# EAGLE library part Y__LCD-RADIO-LPH5019-1 (library ++Bedrahtet)
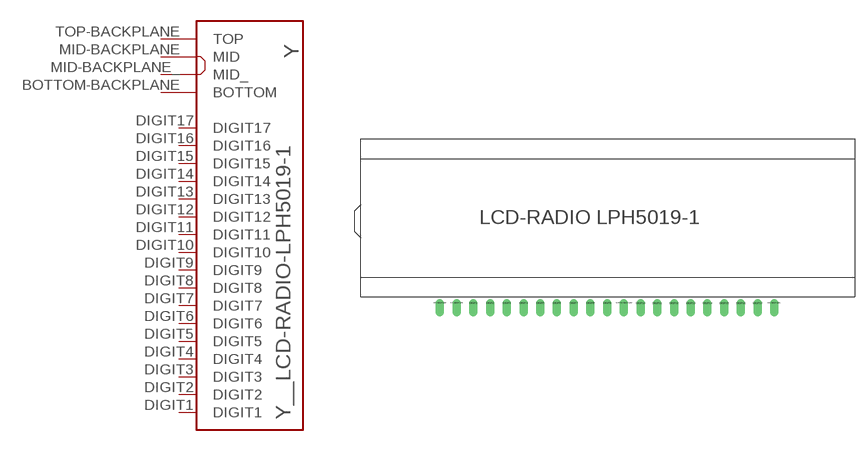
[diagram p45: symbol with the pads of LCD-RADIO; footprint LCD-RADIO]

Designator prefix Y

## Y__LCD-RADIO-LPH5019-1  [LCD-RADIO]
BOTTOM-BACKPLANE  BOTTOM
DIGIT1  DIGIT1
DIGIT2  DIGIT2
DIGIT3  DIGIT3
DIGIT4  DIGIT4
DIGIT5  DIGIT5
DIGIT6  DIGIT6
DIGIT7  DIGIT7
DIGIT8  DIGIT8
DIGIT9  DIGIT9
DIGIT10  DIGIT10
DIGIT11  DIGIT11
DIGIT12  DIGIT12
DIGIT13  DIGIT13
DIGIT14  DIGIT14
DIGIT15  DIGIT15
DIGIT16  DIGIT16
DIGIT17  DIGIT17
MID-BACKPLANE  MID
MID-BACKPLANE_  MID_
TOP-BACKPLANE  TOP

## Footprint LCD-RADIO (pad centres in mm)
drill 0.8 offset: BOTTOM-BACKPLANE 27.94,0; DIGIT1 5.08,0; DIGIT2 7.62,0; DIGIT3 10.16,0; DIGIT4 12.7,0; DIGIT5 15.24,0; DIGIT6 17.78,0; DIGIT7 20.32,0; DIGIT8 22.86,0; DIGIT9 25.4,0; DIGIT10 30.48,0; DIGIT11 33.02,0; DIGIT12 35.56,0; DIGIT13 38.1,0; DIGIT14 40.64,0; DIGIT15 43.18,0; DIGIT16 45.72,0; DIGIT17 48.26,0; MID-BACKPLANE 0,0; MID-BACKPLANE_ 50.8,0; TOP-BACKPLANE 2.54,0